# Altium footprint library CUI V78.PCBLIB: 1 footprints
Each footprint in its own frame and in the unit in brackets; x right, y up, seen from the top. Pads: shape width x height; smd on the part's side, far side on the other; paste and mask are expansions set on the pad; w line width, h text height; cw(c..) or ccw(c..) is an arc to the next point about the centre after c.
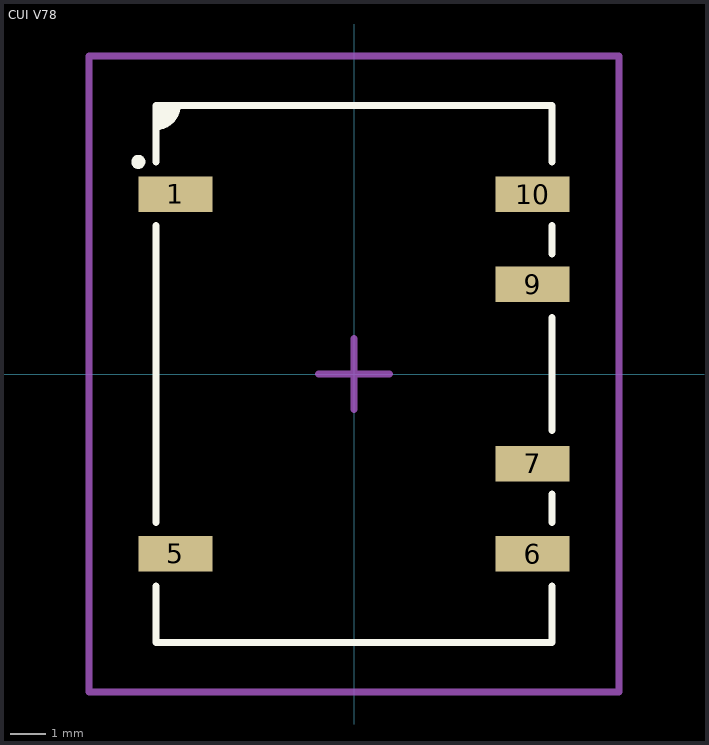
[diagram p0: the footprint, top view; thin cyan lines are the x and y axes]

## CUI V78 [mm] "Non-isolated switching regulator"
height 7.25
pads (6):
  rect 2.1x1 smd: 1(-5.05,5.08) 5(-5.05,-5.08) 6(5.05,-5.08) 7(5.05,-2.54) 9(5.05,2.54) 10(5.05,5.08)
Top Overlay:
  circle w0.2: c-6.1,6 r0.1
  region: -5,7.6 -5,7.4 -5.4,7 -5.6,7 -5.6,7.6
  lines w0.2: -5.6,-6 -5.6,-7.6 5.6,-7.6 5.6,-6 ; -5.6,-4.2 -5.6,4.2 ; -5.6,6 -5.6,7.6 5.6,7.6 5.6,6 ; -5.6,7 ccw(c-5.6,7.6) -5,7.6 ; 5.6,-4.2 5.6,-3.4 ; 5.6,-1.6 5.6,1.6 ; 5.6,3.4 5.6,4.2
Mechanical 15:
  lines w0.2: -1,0 1,0 ; 0,-1 0,1 ; -7.5,-9 7.5,-9 7.5,9 -7.5,9 -7.5,-9
3D body "CUI V78.STEP": height 7.25, standoff 0, extent -5.622,-7.62 5.622,7.62